# Altium footprint library MY.PcbLib: 177 footprints (part 12 of 12)
Each footprint in its own frame and in the unit in brackets; x right, y up, seen from the top. Pads: shape width x height; smd on the part's side, far side on the other; paste and mask are expansions set on the pad; w line width, h text height; cw(c..) or ccw(c..) is an arc to the next point about the centre after c.
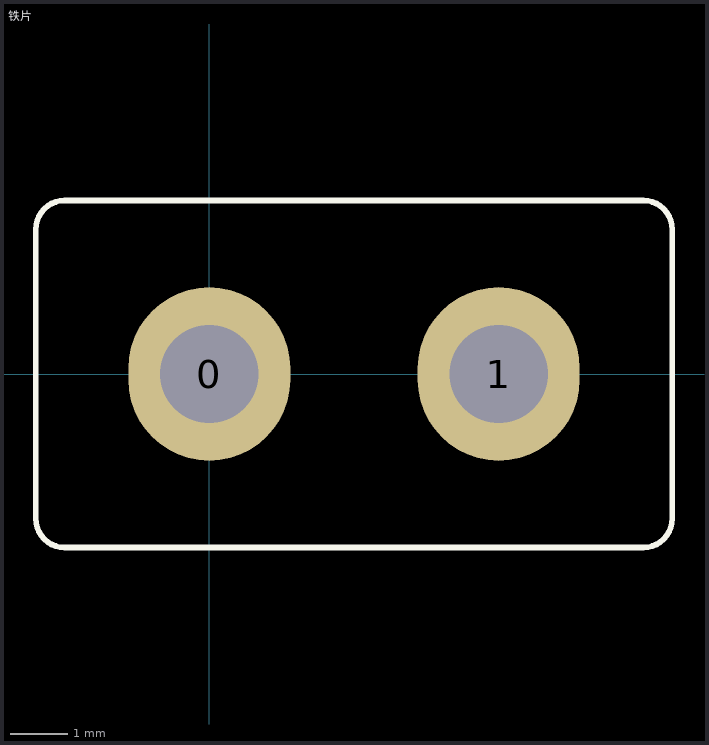
[diagram p11: the footprint, top view; thin cyan lines are the x and y axes]

## 铁片 [mm]
pads (2):
  oval 2.8x3 hole 1.7: 0(0,0) 1(5,0)
Top Overlay:
  lines w0.1: -3,-2.5 ccw(c-2.5,-2.5) -2.5,-3 7.5,-3 ccw(c7.5,-2.5) 8,-2.5 8,2.5 ccw(c7.5,2.5) 7.5,3 -2.5,3 ccw(c-2.5,2.5) -3,2.5 -3,-2.5